# EAGLE library part LTC3604 (library PowerProducts)
2.5A, 15V Monolithic Synchronous Step-Down Regulator
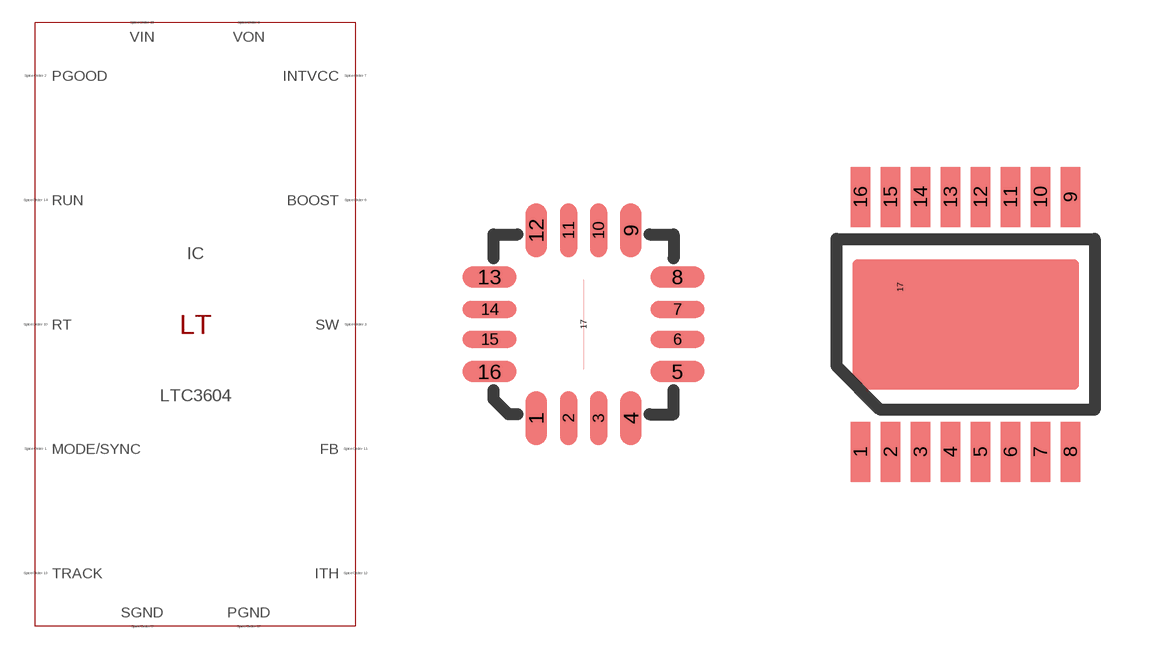
[diagram p259: symbol with the pads of QFN16(UD); footprints QFN16(UD), MSOP16(MSE)]

Designator prefix IC

## LTC3604UD (SPICEMODEL: LTC3604.sub; SPICEPREFIX: X; VALUE2: LTC3604)  [QFN16(UD)]
1  MODE/SYNC  pas
2  PGOOD  pas
3  SW  pas
4  SW  pas
6  BOOST  pas
7  INTVCC  pas
8  VON  pas
9  SGND  pas
10  RT  pas
11  FB  pas
12  ITH  pas
13  TRACK  pas
14  RUN  pas
15  VIN  pas
16  VIN  pas
17  PGND  pas

## LTC3604 (SPICEMODEL: LTC3604.sub; SPICEPREFIX: X; VALUE2: LTC3604)  [MSOP16(MSE)]
1  SW  pas
2  SW  pas
3  PGND  pas
4  PGND  pas
5  BOOST  pas
6  INTVCC  pas
7  VON  pas
8  RT  pas
9  FB  pas
10  ITH  pas
11  TRACK  pas
12  RUN  pas
13  VIN  pas
14  VIN  pas
15  MODE/SYNC  pas
16  PGOOD  pas
17  SGND  pas

## Footprint QFN16(UD) (pad centres in mm)
Package generated from: QFN16(UD).asc (!PADS-POWERPCB-V9.3-BASIC! DESIGN DATABASE ASCII FILE 1.0) with :import-pads-powerpcb-v5.ulp Version 1.0.1 at 04.10.2012 14:11:23
smd 0.54 x 1.35: 1 -1.185,-2.348; 4 1.185,-2.348; 9 1.185,2.348; 12 -1.185,2.348
smd 0.42 x 1.35: 2 -0.375,-2.348; 3 0.375,-2.348; 10 0.375,2.348; 11 -0.375,2.348
smd 1.35 x 0.54: 5 2.348,-1.185; 8 2.348,1.185; 13 -2.348,1.185; 16 -2.348,-1.185
smd 1.35 x 0.42: 6 2.348,-0.375; 7 2.348,0.375; 14 -2.348,0.375; 15 -2.348,-0.375
smd 0 x 2.25: 17 0,0

## Footprint MSOP16(MSE) (pad centres in mm)
Package generated from: MSOP16(MSE).asc (!PADS-POWERPCB-V9.3-BASIC! DESIGN DATABASE ASCII FILE 1.0) with :import-pads-powerpcb-v5.ulp Version 1.0.1 at 04.10.2012 14:11:19
smd 0.495 x 1.5: 1 -2.625,-3.188; 2 -1.875,-3.188; 3 -1.125,-3.188; 4 -0.375,-3.188; 5 0.375,-3.188; 6 1.125,-3.188; 7 1.875,-3.188; 8 2.625,-3.188; 9 2.625,3.188; 10 1.875,3.188; 11 1.125,3.188; 12 0.375,3.188; 13 -0.375,3.188; 14 -1.125,3.188; 15 -1.875,3.188; 16 -2.625,3.188
smd 0 x 0.525: 17 -1.635,0.93